# EAGLE library part KAYO_SIM_SOCKET_SC_6P (library kxnStandard_connector)
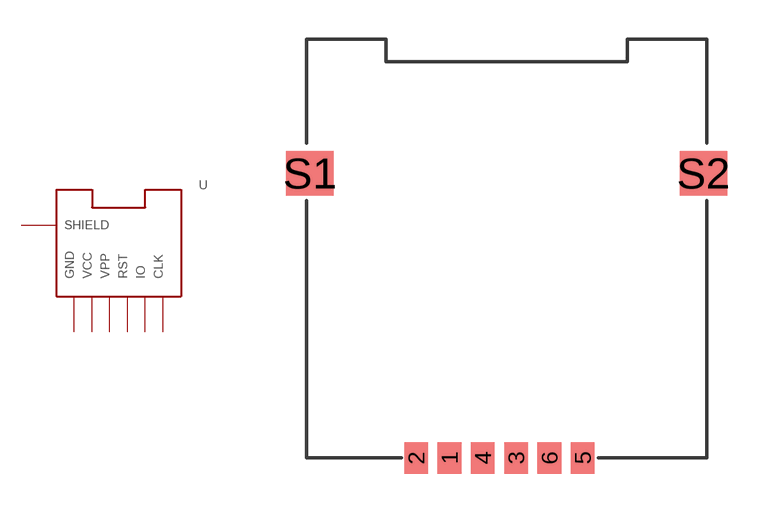
[diagram p2: symbol with the pads of SC_6P; footprint SC_6P]

Designator prefix -

## KAYO_SIM_SOCKET_SC_6P6PIN (CC_SHOP: CongCo)  [SC_6P]
1  1
2  2
3  3
4  4
5  5
6  6
S1  P$1
S2  P$1

## Footprint SC_6P (pad centres in mm)
smd 0.9 x 1.2: 1 -2.18,0; 2 -3.45,0; 3 0.36,0; 4 -0.91,0; 5 2.9,0; 6 1.63,0
smd 1.8 x 1.7: S1 -7.5,10.85; S2 7.5,10.85